# Altium schematic symbol library SN65HVD1050.Schlib: 1 symbol
Pins are listed as number, name and electrical type; pins without a type are passive.

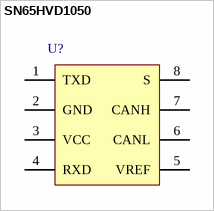
[diagram p0: symbol SN65HVD1050]

## SN65HVD1050
designator U?  (value not drawn)
CAN bus Tranceiver
pins: 1 TXD, 2 GND, 3 VCC, 4 RXD, 5 VREF, 6 CANL, 7 CANH, 8 S